# Altium schematic symbol library ReRAM_Schematics.SchLib: 16 symbols
Pins are listed as number, name and electrical type; pins without a type are passive.

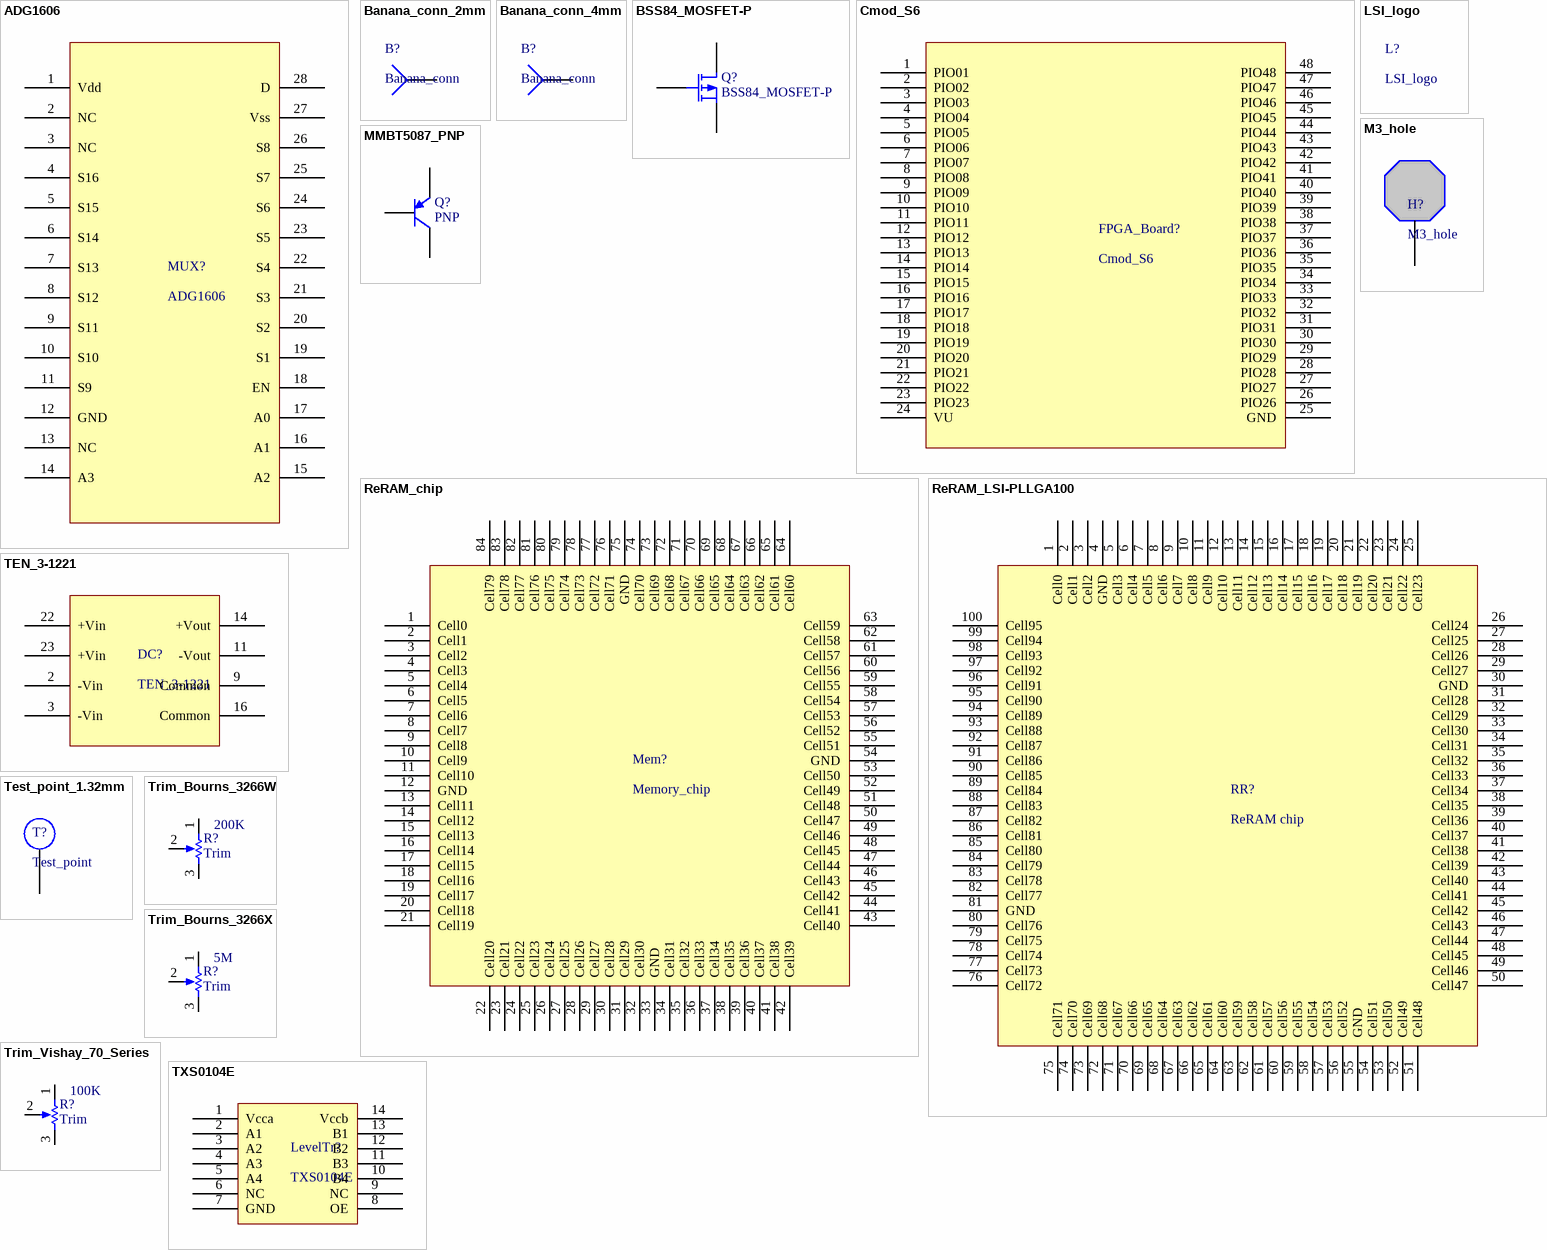
[diagram p0: symbols ADG1606 to TXS0104E]

## ADG1606
designator MUX?
Analog Devices ADG1606
footprint TSOP65P640X120-28N (TSOP, 28-Leads, Body 9.70x4.40mm, Pitch 0.65mm, IPC Medium Density)
pins: 1 Vdd, 2 NC, 3 NC, 4 S16, 5 S15, 6 S14, 7 S13, 8 S12, 9 S11, 10 S10, 11 S9, 12 GND, 13 NC, 14 A3, 15 A2, 16 A1, 17 A0, 18 EN, 19 S1, 20 S2, 21 S3, 22 S4, 23 S5, 24 S6, 25 S7, 26 S8, 27 Vss, 28 D

## Banana_conn_2mm
designator B?, comment Banana_conn
TE Connectivity banana connector 2mm pcb through hole
footprint Banana_conn_2mm
pins: 1

## Banana_conn_4mm
designator B?, comment Banana_conn
Multicomp banana connector 4mm pcb through hole
footprint Banana_conn_4mm
pins: 1

## BSS84_MOSFET-P
designator Q?
BSS84 P-Channel MOSFET; Published: 8-Jun-2000; LatestRevisionDate: 17-Jul-2002; LatestRevisionNote: Re-released for DXP Platform.; PackageVersion: 1995/1996; PackageReference: E3; Publisher: Altium Limited; PackageDescription: TO, Flat Index; 3 In-Line, Axial Leads; Body Dia. 4.6mm; Lead Dia. 0.5 mm (max)
footprint BSS84_MOSFET-P
pins: 1 G, 2 S, 3 D

## Cmod_S6
designator FPGA_Board?
Digilent Cmod S6 Board
footprint Cmod_S6_double_conn
pins: 1 PIO01, 2 PIO02, 3 PIO03, 4 PIO04, 5 PIO05, 6 PIO06, 7 PIO07, 8 PIO08, 9 PIO09, 10 PIO10, 11 PIO11, 12 PIO12, 13 PIO13, 14 PIO14, 15 PIO15, 16 PIO16, 17 PIO17, 18 PIO18, 19 PIO19, 20 PIO20, 21 PIO21, 22 PIO22, 23 PIO23, 24 VU, 25 GND, 26 PIO26, 27 PIO27, 28 PIO28, 29 PIO29, 30 PIO30, 31 PIO31, 32 PIO32, 33 PIO33, 34 PIO34, 35 PIO35, 36 PIO36, 37 PIO37, 38 PIO38, 39 PIO39, 40 PIO40, 41 PIO41, 42 PIO42, 43 PIO43, 44 PIO44, 45 PIO45, 46 PIO46, 47 PIO47, 48 PIO48

## LSI_logo
designator L?
LSI logo
footprint LSI_logo

## M3_hole
designator H?
M3 hole
footprint M3_hole
pins: 1

## MMBT5087_PNP
designator Q?, comment PNP
MMBT5087 PNP Bipolar Transistor; Published: 8-Jun-2000; LatestRevisionDate: 29-May-2009; LatestRevisionNote: IPC-7351 Footprint Added.; PackageVersion: Aug-1999; PackageReference: SOT-23B; Publisher: Altium Limited; PackageDescription: 3-Pin SOT-23 Package 0.95 mm Pitch, 2.4 mm Lead Span
footprint MMBT5087_PNP
pins: 1 C, 2 B, 3 E

## ReRAM_chip
designator Mem?, comment Memory_chip
ReRAM memory chip 84 pin
footprint PLCC84_TH_3M
pins: 1 Cell0, 2 Cell1, 3 Cell2, 4 Cell3, 5 Cell4, 6 Cell5, 7 Cell6, 8 Cell7, 9 Cell8, 10 Cell9, 11 Cell10, 12 GND, 13 Cell11, 14 Cell12, 15 Cell13, 16 Cell14, 17 Cell15, 18 Cell16, 19 Cell17, 20 Cell18, 21 Cell19, 22 Cell20, 23 Cell21, 24 Cell22, 25 Cell23, 26 Cell24, 27 Cell25, 28 Cell26, 29 Cell27, 30 Cell28, 31 Cell29, 32 Cell30, 33 GND, 34 Cell31, 35 Cell32, 36 Cell33, 37 Cell34, 38 Cell35, 39 Cell36, 40 Cell37, 41 Cell38, 42 Cell39, 43 Cell40, 44 Cell41, 45 Cell42, 46 Cell43, 47 Cell44, 48 Cell45, 49 Cell46, 50 Cell47, 51 Cell48, 52 Cell49, 53 Cell50, 54 GND, 55 Cell51, 56 Cell52, 57 Cell53, 58 Cell54, 59 Cell55, 60 Cell56, 61 Cell57, 62 Cell58, 63 Cell59, 64 Cell60, 65 Cell61, 66 Cell62, 67 Cell63, 68 Cell64, 69 Cell65, 70 Cell66, 71 Cell67, 72 Cell68, 73 Cell69, 74 Cell70, 75 GND, 76 Cell71, 77 Cell72, 78 Cell73, 79 Cell74, 80 Cell75, 81 Cell76, 82 Cell77, 83 Cell78, 84 Cell79

## ReRAM_LSI-PLLGA100
designator RR?, comment ReRAM chip
ReRAM chip on LSI-PLLGA100 custom socket
footprint LSI-PLLGA100
pins: 1 Cell0, 2 Cell1, 3 Cell2, 4 GND, 5 Cell3, 6 Cell4, 7 Cell5, 8 Cell6, 9 Cell7, 10 Cell8, 11 Cell9, 12 Cell10, 13 Cell11, 14 Cell12, 15 Cell13, 16 Cell14, 17 Cell15, 18 Cell16, 19 Cell17, 20 Cell18, 21 Cell19, 22 Cell20, 23 Cell21, 24 Cell22, 25 Cell23, 26 Cell24, 27 Cell25, 28 Cell26, 29 Cell27, 30 GND, 31 Cell28, 32 Cell29, 33 Cell30, 34 Cell31, 35 Cell32, 36 Cell33, 37 Cell34, 38 Cell35, 39 Cell36, 40 Cell37, 41 Cell38, 42 Cell39, 43 Cell40, 44 Cell41, 45 Cell42, 46 Cell43, 47 Cell44, 48 Cell45, 49 Cell46, 50 Cell47, 51 Cell48, 52 Cell49, 53 Cell50, 54 Cell51, 55 GND, 56 Cell52, 57 Cell53, 58 Cell54, 59 Cell55, 60 Cell56, 61 Cell57, 62 Cell58, 63 Cell59, 64 Cell60, 65 Cell61, 66 Cell62, 67 Cell63, 68 Cell64, 69 Cell65, 70 Cell66, 71 Cell67, 72 Cell68, 73 Cell69, 74 Cell70, 75 Cell71, 76 Cell72, 77 Cell73, 78 Cell74, 79 Cell75, 80 Cell76, 81 GND, 82 Cell77, 83 Cell78, 84 Cell79, 85 Cell80, 86 Cell81, 87 Cell82, 88 Cell83, 89 Cell84, 90 Cell85, 91 Cell86, 92 Cell87, 93 Cell88, 94 Cell89, 95 Cell90, 96 Cell91, 97 Cell92, 98 Cell93, 99 Cell94, 100 Cell95

## TEN_3-1221
designator DC?
Tracopower TEN 3-1221
footprint TEN_3-1221
pins: 2 -Vin, 3 -Vin, 9 Common, 11 -Vout, 14 +Vout, 16 Common, 22 +Vin, 23 +Vin

## Test_point_1.32mm
designator T?, comment Test_point
Test point 1.32mm
footprint Test_point_1.32mm
pins: 1

## Trim_Bourns_3266W
designator R?, comment Trim  value 200K
Trimmer Bourns 3266W; Sim Note: Enter the Resistance value and the set point into parameter fields.; Set Position: 0.5; Published: 8-Jun-2000; LatestRevisionDate: 17-Jul-2002; LatestRevisionNote: Re-released for DXP Platform.; PackageReference: VR5; Publisher: Altium Limited; PackageDescription: Variable Resistor, Thru-Hole; 3 Leads
footprint Trim_Bourns_3266W
pins: 1 TOP, 2 TAP, 3 BOT
1 alternate drawing of the same symbol

## Trim_Bourns_3266X
designator R?, comment Trim  value 5M
Trimmer Bourns 3266X; Sim Note: Enter the Resistance value and the set point into parameter fields.; Set Position: 0.5; Published: 8-Jun-2000; LatestRevisionDate: 17-Jul-2002; LatestRevisionNote: Re-released for DXP Platform.; PackageReference: VR5; Publisher: Altium Limited; PackageDescription: Variable Resistor, Thru-Hole; 3 Leads
footprint Trim_Bourns_3266X
pins: 1 TOP, 2 TAP, 3 BOT
1 alternate drawing of the same symbol

## Trim_Vishay_70_Series
designator R?, comment Trim  value 100K
Trimmer Vishay 70 Series; Sim Note: Enter the Resistance value and the set point into parameter fields.; Set Position: 0.5; Published: 8-Jun-2000; LatestRevisionDate: 17-Jul-2002; LatestRevisionNote: Re-released for DXP Platform.; PackageReference: VR5; Publisher: Altium Limited; PackageDescription: Variable Resistor, Thru-Hole; 3 Leads
footprint Trim_Vishay_70_Series
pins: 1 TOP, 2 TAP, 3 BOT
1 alternate drawing of the same symbol

## TXS0104E
designator LevelTr?
Texas Instruments TXS0104E
footprint SOIC127P600X175-14N (SOIC, 14-Leads, Body 8.65x3.90mm, Pitch 1.27mm, IPC Medium Density)
pins: 1 Vcca, 2 A1, 3 A2, 4 A3, 5 A4, 6 NC, 7 GND, 8 OE, 9 NC, 10 B4, 11 B3, 12 B2, 13 B1, 14 Vccb